# Altium footprint library Batteries_Shelestov.PcbLib: 2 footprints
Each footprint in its own frame and in the unit in brackets; x right, y up, seen from the top. Pads: shape width x height; smd on the part's side, far side on the other; paste and mask are expansions set on the pad; w line width, h text height; cw(c..) or ccw(c..) is an arc to the next point about the centre after c.
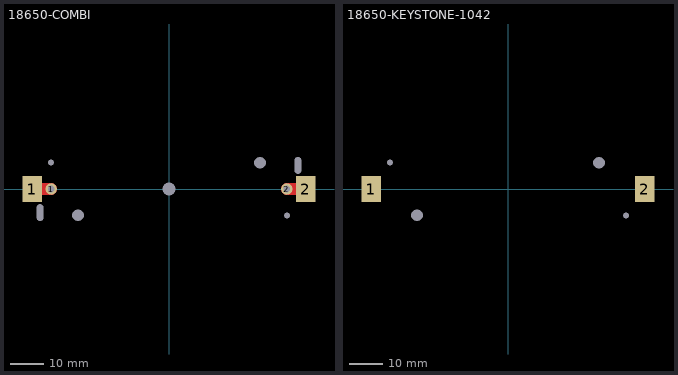
[diagram p0: the footprints below, top view; thin cyan lines are the x and y axes]

## 18650-COMBI [mm]
pads (11):
  rect 6x8 smd: 1(-41.5,0) 2(41.5,0)
  round 3.5 hole 2: 1(-35.75,0) 2(35.75,0)
  round 1.524 hole 2 slot 5 at 90 deg: MECH(-39.1,-7.15) MECH(39.1,7.15)
  round 1.524 hole 1.8: MECH(-35.85,8) MECH(35.85,-8)
  round 1.524 hole 3.5: MECH(-27.6,-8) MECH(27.6,8)
  round 1.524 hole 4: MECH(0,0)
Top Layer:
  lines w3.5: -40,0 -35.75,0 ; 35.75,0 42,0
3D body "User Library-KEYELCO_1042.step": height 14.96, standoff -3.33, extent -42.977,-10.325 43.027,10.325

## 18650-KEYSTONE-1042 [mm]
pads (6):
  rect 6x8 smd: 1(-41.5,0) 2(41.5,0)
  round 1.524 hole 1.8: MECH(-35.85,8) MECH(35.85,-8)
  round 1.524 hole 3.5: MECH(-27.6,-8) MECH(27.6,8)
3D body "User Library-KEYELCO_1042.step": height 14.96, standoff -3.33, extent -42.977,-10.325 43.027,10.325